# Altium footprint library ESP-12E&F Module.PcbLib: 1 footprints
Each footprint in its own frame and in the unit in brackets; x right, y up, seen from the top. Pads: shape width x height; smd on the part's side, far side on the other; paste and mask are expansions set on the pad; w line width, h text height; cw(c..) or ccw(c..) is an arc to the next point about the centre after c.
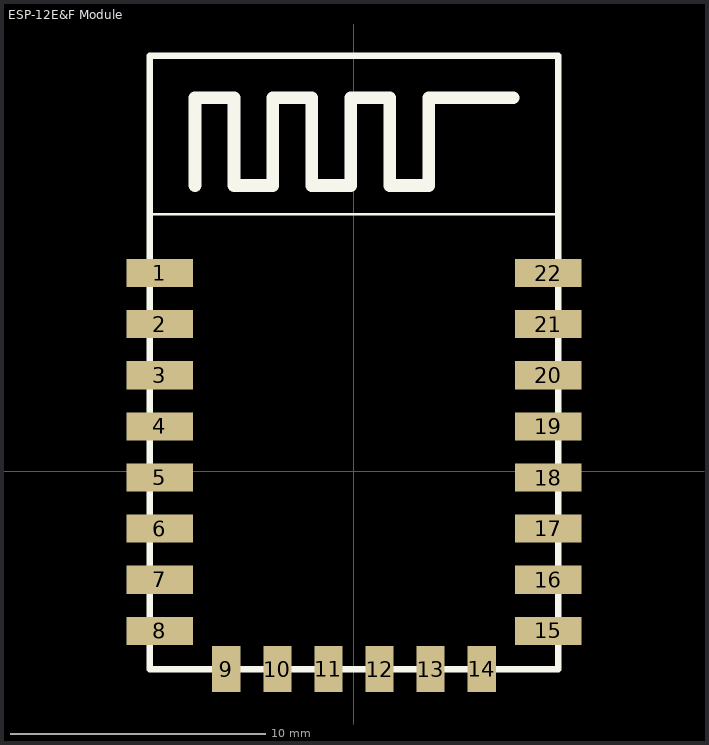
[diagram p0: the footprint, top view; thin cyan lines are the x and y axes]

## ESP-12E&F Module [mm]
pads (22):
  rect 2.6x1.1 smd: 1(-7.6,7.75) 2(-7.6,5.75) 3(-7.6,3.75) 4(-7.6,1.75) 5(-7.6,-0.25) 6(-7.6,-2.25) 7(-7.6,-4.25) 8(-7.6,-6.25) 15(7.6,-6.25) 16(7.6,-4.25) 17(7.6,-2.25) 18(7.6,-0.25) 19(7.6,1.75) 20(7.6,3.75) 21(7.6,5.75) 22(7.6,7.75)
  rect 1.1x1.8 smd: 9(-5,-7.75) 10(-3,-7.75) 11(-1,-7.75) 12(1,-7.75) 13(3,-7.75) 14(5,-7.75)
Top Overlay:
  lines w0.1: -8,10.05 8,10.05
  lines w0.254: -8,-7.75 8,-7.75 8,16.25 -8,16.25 -8,-7.75
  lines w0.5: -6.223,11.176 -6.223,14.605 -4.699,14.605 -4.699,11.176 -3.175,11.176 -3.175,14.605 -1.651,14.605 -1.651,11.176 -0.127,11.176 -0.127,14.605 1.397,14.605 1.397,11.176 2.921,11.176 2.921,14.605 6.223,14.605
3D body "User Library-EPS8266 ESP-12E.STEP": height 2.65, standoff -0.04, extent -8.005,-7.687 8.005,16.318